# Altium footprint library CANDAQ.PcbLib: 26 footprints (part 1 of 2)
Each footprint in its own frame and in the unit in brackets; x right, y up, seen from the top. Pads: shape width x height; smd on the part's side, far side on the other; paste and mask are expansions set on the pad; w line width, h text height; cw(c..) or ccw(c..) is an arc to the next point about the centre after c.
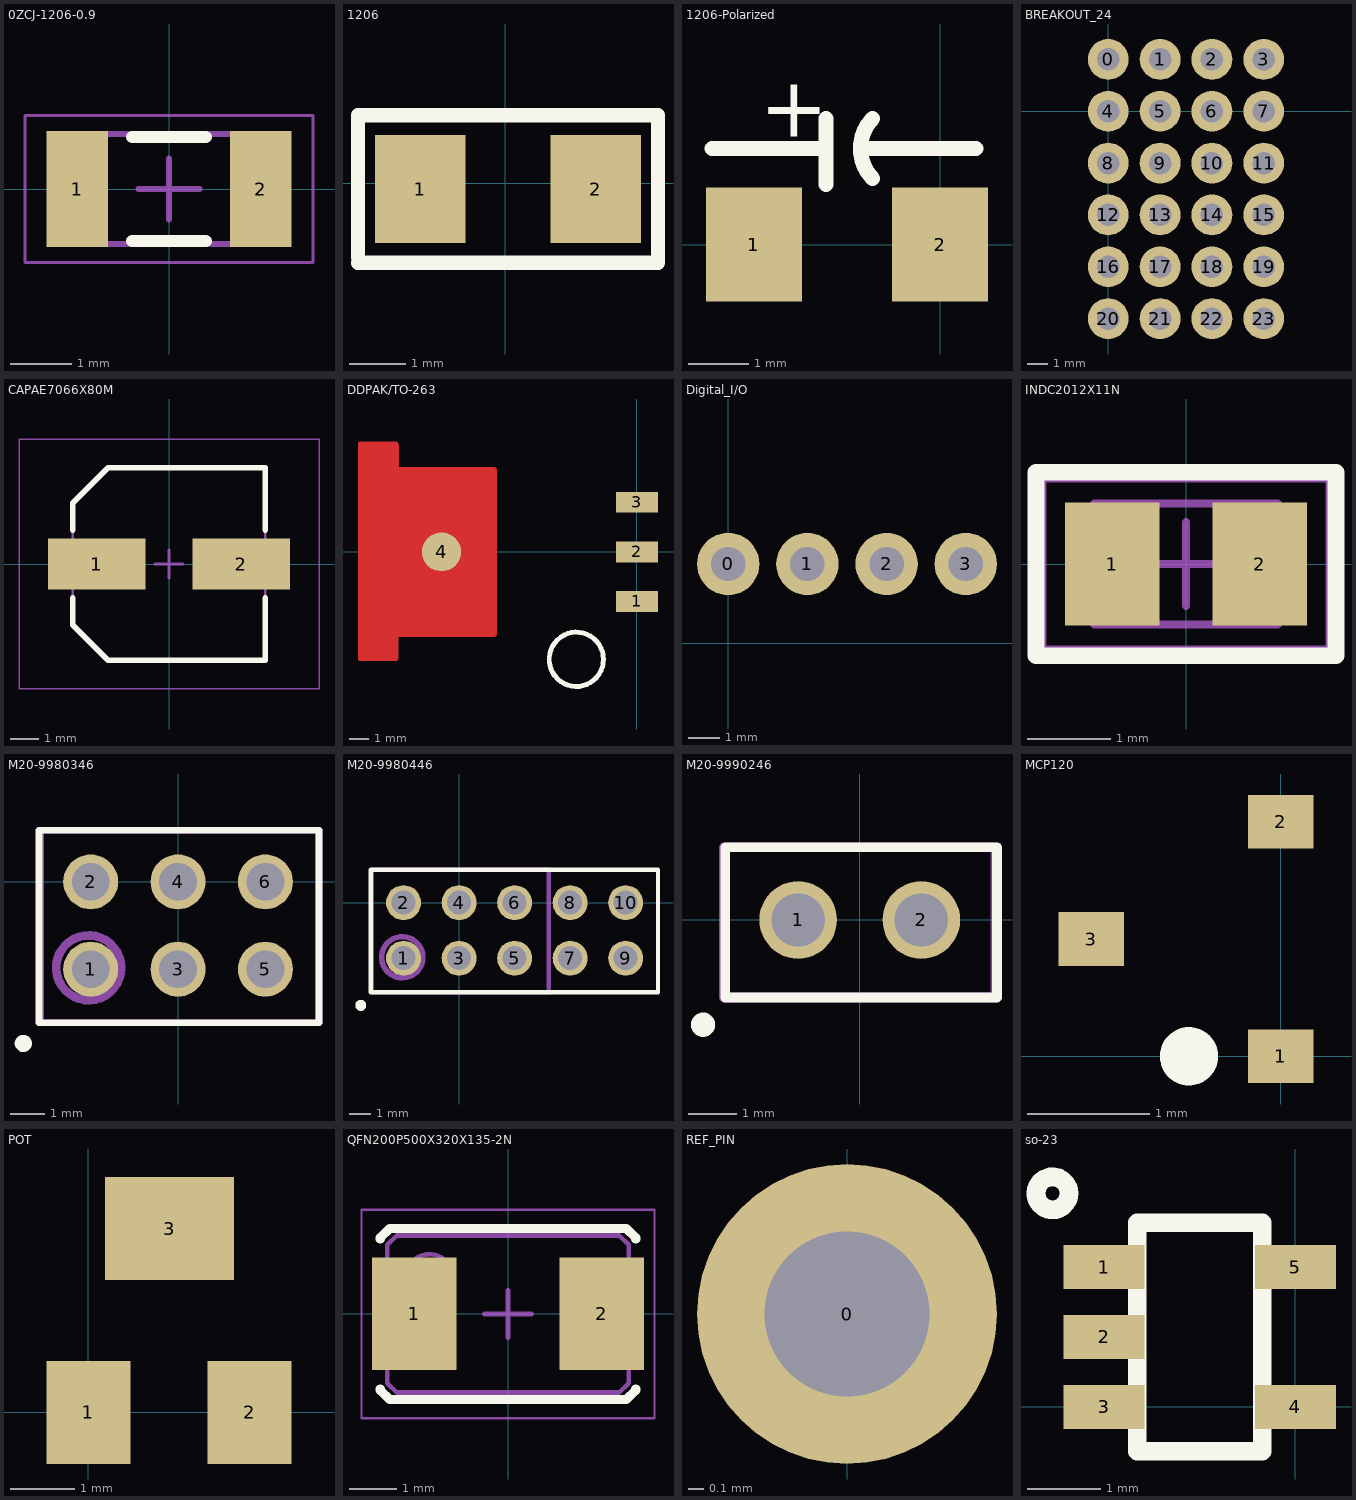
[diagram p0: the footprints below, top view; thin cyan lines are the x and y axes]

## 0ZCJ-1206-0.9 [mm]
height 0.9
pads (2):
  rect 1x1.9 smd: 1(-1.5,0) 2(1.5,0)
Top Overlay:
  lines w0.2: -0.6,-0.85 0.6,-0.85 ; -0.6,0.85 0.6,0.85
Mechanical 13:
  lines w0.1: -1.75,-0.9 1.75,-0.9 1.75,0.9 -1.75,0.9 -1.75,-0.9
Mechanical 15:
  lines w0.05: -2.35,-1.2 2.35,-1.2 2.35,1.2 -2.35,1.2 -2.35,-1.2
  lines w0.1: -0.5,0 0.5,0 ; 0,-0.5 0,0.5
3D body "CAPC3217X09N.step": height 0.9, standoff 0, extent -1.75,-0.9 1.75,0.9

## 1206 [mm]
pads (2):
  rect 1.6x1.9 smd: 1(-1.5,-0.1) 2(1.6,-0.1)
Top Layer:
  lines w0.254: -2.6,-1.4 -2.6,-1.3
Top Overlay:
  lines w0.254: -2.6,-1.4 2.7,-1.4 2.7,1.2 -2.6,1.2 -2.6,-1.3

## 1206-Polarized [mm]
pads (2):
  rect 1.6x1.9 smd: 1(-3.1,0) 2(0,0)
Top Overlay:
  lines w0.254: -3.8,1.6 -2,1.6 ; -1.9,1 -1.9,2.1 ; -1.2,1.6 0.6,1.6 ; -1.125,1.1 cw(c-0.6,1.6) -1.125,2.1
  text "+" at -3,1.8 h1

## BREAKOUT_24 [mm]
pads (24):
  round 2 hole 1.1: 0(0,2.54) 1(2.54,2.54) 2(5.08,2.54) 3(7.62,2.54) 4(0,0) 5(2.54,0) 6(5.08,0) 7(7.62,0) 8(0,-2.54) 9(2.54,-2.54) 10(5.08,-2.54) 11(7.62,-2.54) 12(0,-5.08) 13(2.54,-5.08) 14(5.08,-5.08) 15(7.62,-5.08) 16(0,-7.62) 17(2.54,-7.62) 18(5.08,-7.62) 19(7.62,-7.62) 20(0,-10.16) 21(2.54,-10.16) 22(5.08,-10.16) 23(7.62,-10.16)

## CAPAE7066X80M [mm] "Aluminum Electrolytic Capacitor, Body 6.60x6.60x8.00mm, IPC Low Density"
height 8
pads (2):
  rect 3.45x1.8 smd: 1(-2.55,0) 2(2.55,0)
Top Overlay:
  lines w0.2: -3.4,-1.2 -3.4,-2.15 -2.15,-3.4 3.4,-3.4 3.4,-1.2 ; -3.4,1.2 -3.4,2.15 -2.15,3.4 3.4,3.4 3.4,1.2
Mechanical 13:
  lines w0.1: -3.4,-2.15 -3.4,2.15 -2.15,3.4 3.4,3.4 3.4,-3.4 -2.15,-3.4 -3.4,-2.15
Mechanical 15:
  lines w0.05: -5.3,-4.4 5.3,-4.4 5.3,4.4 -5.3,4.4 -5.3,-4.4
  lines w0.1: -0.5,0 0.5,0 ; 0,-0.5 0,0.5
3D body "CAPAE7066X80M.step": height 8, standoff 0, extent -3.5,-3.4 3.5,3.4

## DDPAK/TO-263 [mm]
pads (4):
  rect 2.16x1.07 smd: 1(0,-2.54) 2(0,0) 3(0,2.54)
  round 2 smd: 4(-10,0)
Top Layer:
  region: -14.237,-5.545 -14.229,-5.554 -14.208,-5.568 -14.185,-5.577 -14.16,-5.582 -14.147,-5.582 -12.337,-5.582 -12.312,-5.582 -12.265,-5.563 -12.229,-5.527 -12.21,-5.48 -12.21,-5.455 -12.21,-4.347 -7.327,-4.347 -7.315,-4.347 -7.29,-4.342 -7.267,-4.333 -7.246,-4.319 -7.237,-4.31 -7.218,-4.29 -7.209,-4.282 -7.195,-4.261 -7.185,-4.237 -7.18,-4.213 -7.18,-4.2 -7.18,4.2 -7.18,4.225 -7.199,4.272 -7.235,4.308 -7.282,4.327 -7.307,4.327 -12.19,4.327 -12.19,5.435 -12.19,5.444 -12.193,5.463 -12.198,5.48 -12.206,5.497 -12.211,5.505 -12.211,5.507 -12.21,5.511 -12.21,5.514 -12.21,5.518 -12.21,5.52 -12.21,5.545 -12.229,5.592 -12.265,5.628 -12.312,5.647 -12.337,5.647 -14.147,5.647 -14.173,5.647 -14.22,5.628 -14.255,5.592 -14.275,5.545 -14.275,5.52 -14.275,-5.455 -14.275,-5.468 -14.27,-5.492 -14.26,-5.515 -14.246,-5.536
Top Overlay:
  circle w0.254: c-3.1,-5.5 r1.389

## Digital_I/O [mm]
pads (4):
  round 2 hole 1.1: 0(0,2.54) 1(2.54,2.54) 2(5.08,2.54) 3(7.62,2.54)

## INDC2012X11N [mm] "Chip Inductor, 2-Leads, Body 2.00x1.25mm, IPC Medium Density"
height 1.05
pads (2):
  rect 1.13x1.47 smd: 1(-0.885,0) 2(0.885,0)
Top Overlay:
  lines w0.2: -1.8,-1.1 1.8,-1.1 1.8,1.1 -1.8,1.1 -1.8,-1.1
Mechanical 13:
  lines w0.1: -1.1,-0.725 1.1,-0.725 1.1,0.725 -1.1,0.725 -1.1,-0.725
Mechanical 15:
  lines w0.05: -1.7,-1 1.7,-1 1.7,1 -1.7,1 -1.7,-1
  lines w0.1: -0.5,0 0.5,0 ; 0,-0.5 0,0.5
3D body "INDC2012X11N.step": height 1.05, standoff 0, extent -1.1,-0.725 1.1,0.725

## M20-9980346 [mm]
pads (6):
  round 1.6 hole 1.1: 1(-2.54,-2.54) 2(-2.54,0) 3(0,-2.54) 4(0,0) 5(2.54,-2.54) 6(2.54,0)
Top Overlay:
  circle w0.25: c-4.5,-4.7 r0.125
  lines w0.2: -4.04,-4.1 -4.04,1.5 4.1,1.5 4.1,-4.1 -4.04,-4.1
Mechanical 29:
  circle w0.254: c-2.6,-2.5 r0.943
  lines w0.2: -4,-4.1 4.1,-4.1 4.1,1.5 -4,1.5 -4,-4.1
3D body "BG030-03-X-0450-0300-X-X_revG.step": height 7.13, standoff -2.91, extent -3.79,-1.3 3.83,1.2
3D body "BG030-03-X-0450-0300-X-X_revG.step": height 7.13, standoff -2.91, extent -3.79,-3.84 3.83,-1.34

## M20-9980446 [mm]
pads (10):
  round 1.6 hole 1.1: 1(-2.54,-2.54) 2(-2.54,0) 3(0,-2.54) 4(0,0) 5(2.54,-2.54) 6(2.54,0) 7(5.08,-2.54) 8(5.08,0) 9(7.62,-2.54) 10(7.62,0)
Top Overlay:
  circle w0.25: c-4.5,-4.7 r0.125
  lines w0.2: -4.04,-4.1 9.1,-4.1 9.1,1.5 -4.04,1.5 -4.04,-4.1
Mechanical 29:
  circle w0.254: c-2.6,-2.5 r0.943
  lines w0.2: -4,-4.1 -4,1.5 4.1,1.5 4.1,-4.1 -4,-4.1

## M20-9990246 [mm]
pads (2):
  round 1.6 hole 1.1: 1(-1.27,0) 2(1.27,0)
Top Overlay:
  circle w0.25: c-3.23,-2.16 r0.125
  lines w0.2: -2.77,-1.6 2.83,-1.6 2.83,1.5 -2.77,1.5 -2.77,-1.6
Mechanical 29:
  lines w0.2: -2.8,-1.6 2.8,-1.6 2.8,1.5 -2.8,1.5 -2.8,-1.6
3D body "BG030-02-X-0450-0300-X-X_revG.step": height 7.13, standoff -2.91, extent -2.51,-1.3 2.57,1.2

## MCP120 [mm]
pads (3):
  rect 0.535x0.44 smd: 1(0,0) 2(0,1.92) 3(-1.55,0.96)
Top Overlay:
  circle w0.254: c-0.75,0 r0.112

## POT [mm]
pads (3):
  rect 1.3x1.6 smd: 1(0,0) 2(2.5,0)
  rect 2x1.6 smd: 3(1.26,2.85)

## QFN200P500X320X135-2N [mm] "QFN, 2-Leads, Body 5.00x3.20mm, Pitch 2.00mm, IPC Medium Density"
height 1.35
pads (2):
  rect 1.8x2.4 smd: 1(-2,0) 2(2,0)
Top Overlay:
  lines w0.2: -2.725,-1.6 -2.725,-1.625 -2.525,-1.825 0.6,-1.825 2.525,-1.825 2.725,-1.625 2.725,-1.6 ; -2.725,1.6 -2.725,1.625 -2.525,1.825 -0.6,1.825 2.525,1.825 2.725,1.625 2.725,1.6
Mechanical 13:
  circle w0.1: c-1.675,0.775 r0.5
  lines w0.1: -2.575,-1.475 -2.575,1.475 -2.375,1.675 2.375,1.675 2.575,1.475 2.575,-1.475 2.375,-1.675 -2.375,-1.675 -2.575,-1.475
Mechanical 15:
  lines w0.05: -3.125,-2.225 3.125,-2.225 3.125,2.225 -3.125,2.225 -3.125,-2.225
  lines w0.1: -0.5,0 0.5,0 ; 0,-0.5 0,0.5
3D body: height 1.35, standoff 0.05, extent -2.575,-1.675 2.575,1.675

## REF_PIN [mm]
pads (1):
  round 2 hole 1.1: 0(0,2.54)

## so-23 [mm]
pads (5):
  rect 1.1x0.6 smd: 1(-2.6,1.9) 2(-2.6,0.95) 3(-2.6,0) 4(0,0) 5(0,1.9)
Top Overlay:
  circle w0.254: c-3.3,2.9 r0.224
  lines w0.254: -0.45,2.45 -0.45,-0.6 -2.15,-0.6 -2.15,2.5 -0.45,2.5